# EAGLE library part CON10 (library Conn - Rect - Headers,Male Pins - Jumpers)
8-pin Thru-hole Header
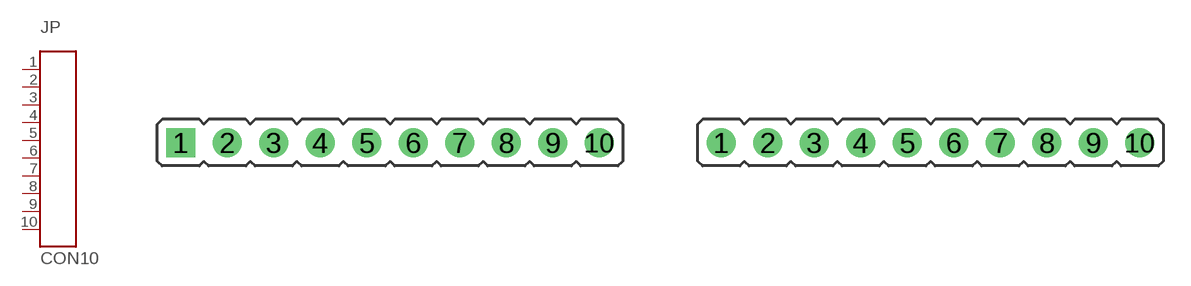
[diagram p4: symbol with the pads of 1X10; footprints 1X10, 1X10C]

Designator prefix JP

## CON10  [1X10]
1  1
2  2
3  3
4  4
5  5
6  6
7  7
8  8
9  9
10  10

## CON10C  [1X10C]
Pads as for 1X10

## Footprint 1X10 (pad centres in mm)
JUMPER
drill 1.067 square: 1 0,0
drill 1.067: 2 2.54,0; 3 5.08,0; 4 7.62,0; 5 10.16,0; 6 12.7,0; 7 15.24,0; 8 17.78,0; 9 20.32,0; 10 22.86,0

## Footprint 1X10C (pad centres in mm)
JUMPER
drill 1.067: 1 0,0; 2 2.54,0; 3 5.08,0; 4 7.62,0; 5 10.16,0; 6 12.7,0; 7 15.24,0; 8 17.78,0; 9 20.32,0; 10 22.86,0